# EAGLE library part ARDUINO_UNO (library kitt.con)
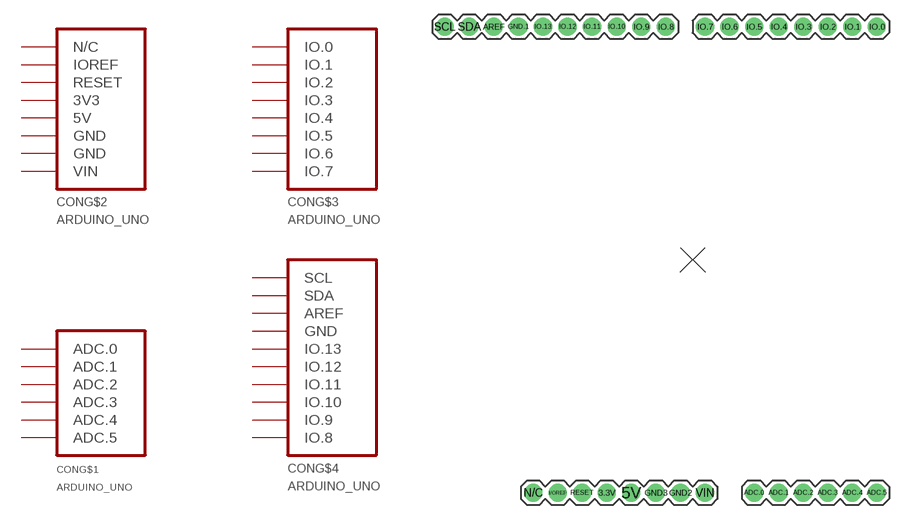
[diagram p0: symbol with the pads of AU_PINS; footprint AU_PINS]

Designator prefix CON; gates G$1=AU_ADC G$2=AU_SUPPLY G$3=AU_IOA G$4=AU_IOB

## ARDUINO_UNO  [AU_PINS]
3.3V  G$2:3V3
5V  G$2:5V
ADC.0  G$1:ADC.0
ADC.1  G$1:ADC.1
ADC.2  G$1:ADC.2
ADC.3  G$1:ADC.3
ADC.4  G$1:ADC.4
ADC.5  G$1:ADC.5
AREF  G$4:AREF
GND2  G$2:GND
GND3  G$2:GND
GND.1  G$4:GND
I/OREF  G$2:IOREF
IO.0  G$3:IO.0
IO.1  G$3:IO.1
IO.2  G$3:IO.2
IO.3  G$3:IO.3
IO.4  G$3:IO.4
IO.5  G$3:IO.5
IO.6  G$3:IO.6
IO.7  G$3:IO.7
IO.8  G$4:IO.8
IO.9  G$4:IO.9
IO.10  G$4:IO.10
IO.11  G$4:IO.11
IO.12  G$4:IO.12
IO.13  G$4:IO.13
N/C  G$2:N/C
RESET  G$2:RESET
SCL  G$4:SCL
SDA  G$4:SDA
VIN  G$2:VIN

## Footprint AU_PINS (pad centres in mm)
drill 1.016 pad 1.88: 3.3V -8.89,-24.13; 5V -6.35,-24.13; ADC.0 6.35,-24.13; ADC.1 8.89,-24.13; ADC.2 11.43,-24.13; ADC.3 13.97,-24.13; ADC.4 16.51,-24.13; ADC.5 19.05,-24.13; AREF -20.574,24.13; GND2 -1.27,-24.13; GND3 -3.81,-24.13; GND.1 -18.034,24.13; I/OREF -13.97,-24.13; IO.0 19.05,24.13; IO.1 16.51,24.13; IO.2 13.97,24.13; IO.3 11.43,24.13; IO.4 8.89,24.13; IO.5 6.35,24.13; IO.6 3.81,24.13; IO.7 1.27,24.13; IO.8 -2.794,24.13; IO.9 -5.334,24.13; IO.10 -7.874,24.13; IO.11 -10.414,24.13; IO.12 -12.954,24.13; IO.13 -15.494,24.13; N/C -16.51,-24.13; RESET -11.43,-24.13; SCL -25.654,24.13; SDA -23.114,24.13; VIN 1.27,-24.13